# EAGLE library part ECH81 (library E88CC)
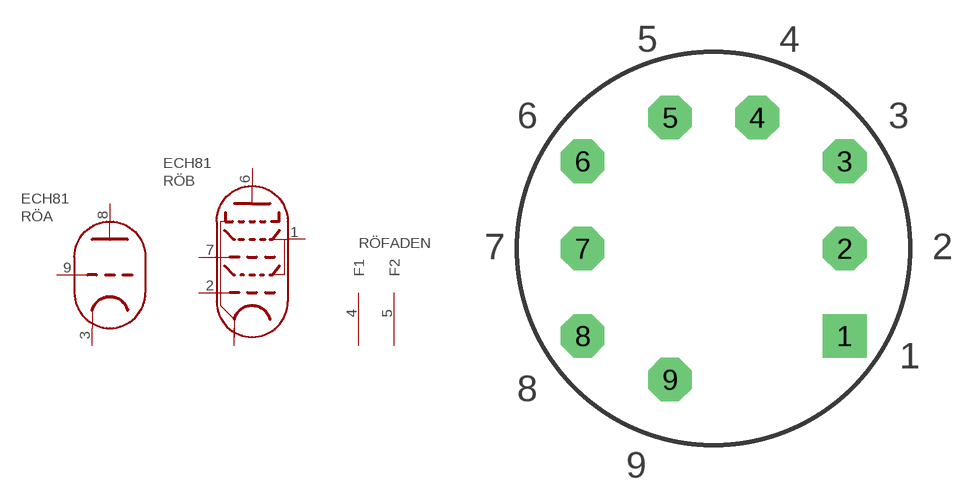
[diagram p6: symbol with the pads of NOVAL_P; footprint NOVAL_P]

Designator prefix RÖ; gates A=TRIODE B=HEPTODE FADEN=FADEN

## ECH81  [NOVAL_P]
1  B:G2_G4  in
2  B:G1  in
3  A:K
4  FADEN:F1  pwr
5  FADEN:F2  pwr
6  B:A  out
7  B:G3  in
8  A:A  out
9  A:G  in

## Footprint NOVAL_P (pad centres in mm)
drill 1 pad 2.54 square: 1 7.62,-5.08
drill 1 pad 2.54 octagon: 2 7.62,0; 3 7.62,5.08; 4 2.54,7.62; 5 -2.54,7.62; 6 -7.62,5.08; 7 -7.62,0; 8 -7.62,-5.08; 9 -2.54,-7.62